# Altium schematic symbol library Symbols.SchLib: 2 symbols
Pins are listed as number, name and electrical type; pins without a type are passive.

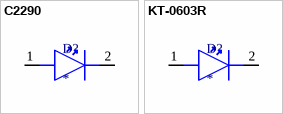
[diagram p0: symbols C2290 to KT-0603R]

## C2290
designator D?
White 0603 Light Emitting Diodes (LED) RoHS
footprint LED_0603
pins: 1, 2

## KT-0603R
designator D?
Red 615~630nm 1.9~2.2V 0603 Light Emitting Diodes (LED) RoHS
footprint LED_0603
pins: 1, 2